# Altium integrated library TexasInstruments_INA220_INA226.IntLib: 2 symbols
Pins are listed as number, name and electrical type; pins without a type are passive.

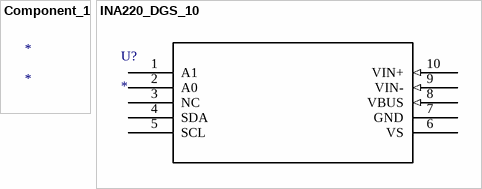
[diagram p0: symbols Component_1 to INA220_DGS_10]

## Component_1
designator *

## INA220_DGS_10
designator U?
Imported; Manufacturer: Texas Instruments; GENERIC_PART_NUMBER: INA220; Manufacturer_Part_Number: ina220_dgs_10; INDUSTRY_STD_PKG_TYPE: MSOP; FAMILY_NAME: CURRENT SHUNT MONITOR; PIN_COUNT: 10; PACKAGE_DESIGNATOR: DGS; Datasheet URL: http://www.ti.com/lit/gpn/INA220; Vendor: Texas Instruments; RefDes: RefDes; Type: DEV; Value: Value
footprint DGS10
footprint MAXM-U10+2_M (SOP, 10-Leads, Body 3x3mm, Pitch 0.5mm, IPC Low Density)
pins: 1 A1, 2 A0, 3 NC, 4 SDA, 5 SCL, 6 VS (power), 7 GND (power), 8 VBUS (in), 9 VIN- (in), 10 VIN+ (in)